# Altium footprint library switch.PcbLib: 12 footprints
Each footprint in its own frame and in the unit in brackets; x right, y up, seen from the top. Pads: shape width x height; smd on the part's side, far side on the other; paste and mask are expansions set on the pad; w line width, h text height; cw(c..) or ccw(c..) is an arc to the next point about the centre after c.
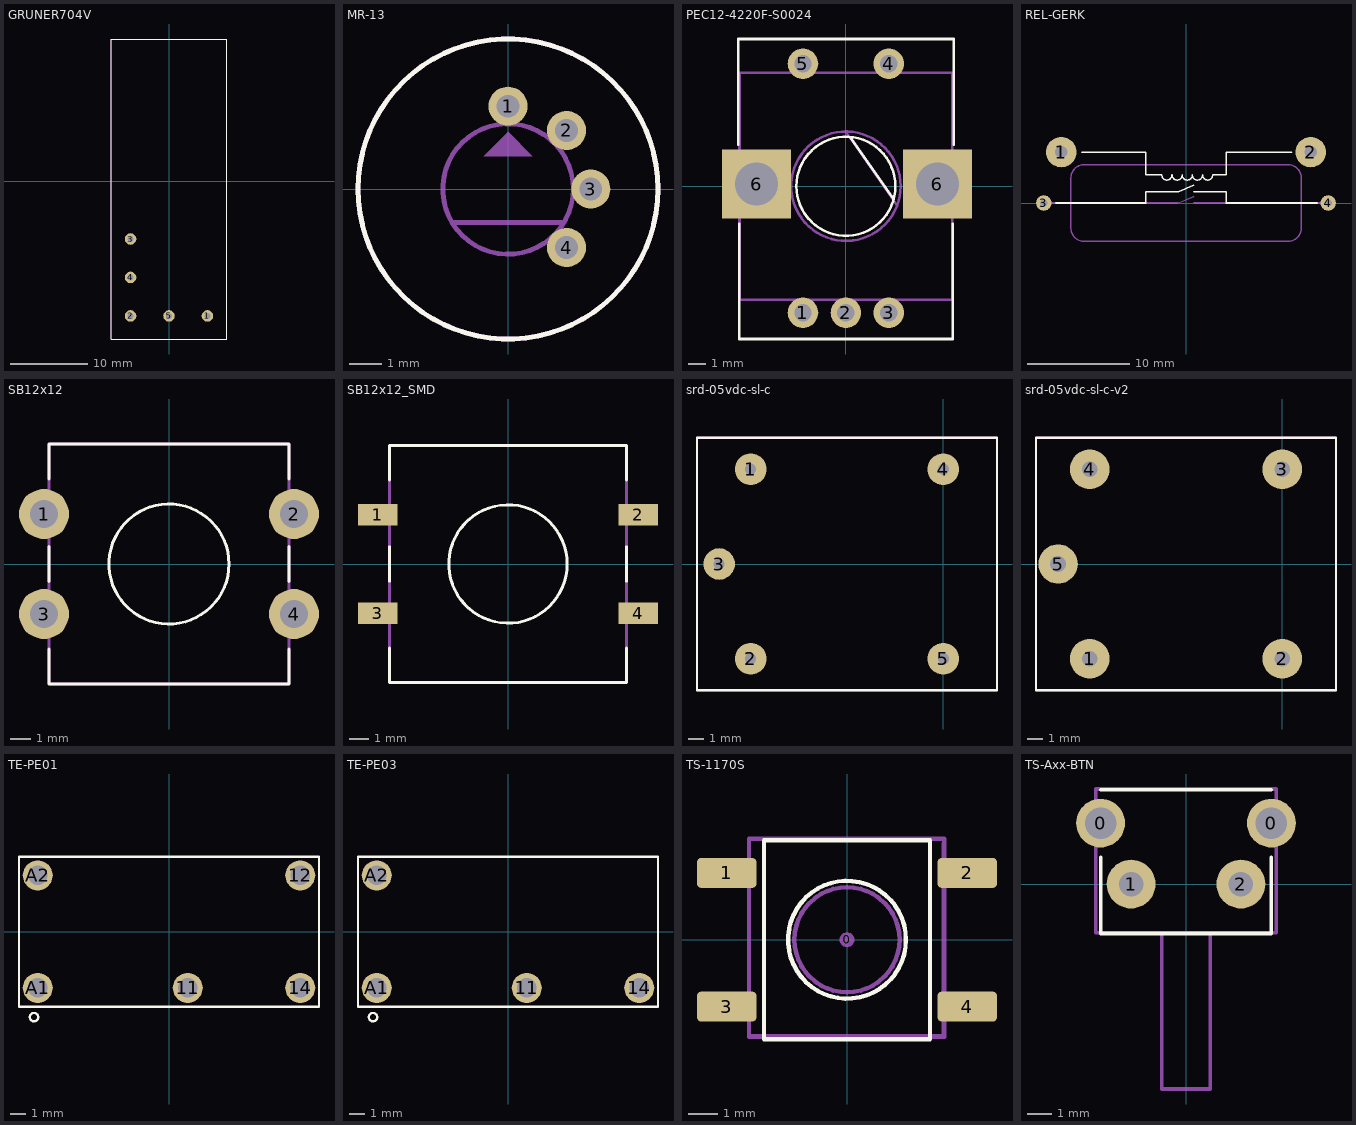
[diagram p0: the footprints below, top view; thin cyan lines are the x and y axes]

## GRUNER704V [mm]
height 34
pads (5):
  round 1.5 hole 0.8: 1(5,-17.5) 2(-5,-17.5) 3(-5,-7.5) 4(-5,-12.5) 5(0,-17.5)
Top Overlay:
  lines w0.15: -7.5,-20.5 7.5,-20.5 7.5,18.5 -7.5,18.5 -7.5,-20.5
Mechanical 29:
  lines w0.15: -7.5,-20.5 -7.5,18.5 7.5,18.5 7.5,-20.5 -7.5,-20.5
3D body "reley704V.STEP": height 32.4, standoff -5.9, extent -12.9,-20.5 7.5,48

## MR-13 [mm]
height 15
pads (4):
  round 1.2 hole 0.7: 1(0,2.54) 2(1.796,1.796) 3(2.54,0) 4(1.796,-1.796)
Top Overlay:
  circle w0.15: c0,0 r4.6
Mechanical 29:
  circle w0.15: c0,0 r2
  circle w0.15: c0,0 r4.6
  region: 0,1.75 -0.75,1 0.75,1
  lines w0.15: -1.725,-1.025 1.725,-1.025
3D body "MR-13.STEP": height 14.5, standoff -3.2, extent -4.6,-4.6 4.6,5.273

## PEC12-4220F-S0024 [mil]
height 944.88
pads (7):
  round 70 hole 40: 1(-98.43,-290) 2(0,-290) 3(98.43,-290) 4(98.43,280.87) 5(-98.43,280.87)
  rect 157.48x157.48 hole 98.43: 6(-205,5) 6(210,5)
Top Overlay:
  circle w5.91: c0,0 r113.62
  lines w5.91: -247.05,95.47 -247.05,337.6 0,337.6 247.05,337.6 247.05,95.47 ; -245.08,-86.61 -245.08,-350.39 0,-350.39 245.08,-350.39 245.08,-86.61 ; 9.97,112.59 109.25,-29.53
Mechanical 29:
  circle w5.91: c0,0 r125.47
  lines w5.91: -0.98,125.98 116.14,-42.32 ; -244,-260 -244,260 244,260 244,-260 -244,-260
3D body "PEC12-4220F-S0024.STEP": height 720.47, standoff -101.48, extent -243.19,-279.53 245,279.53

## REL-GERK [mm]
height 14
pads (4):
  round 3 hole 1.2: 1(-12.25,5) 2(12.25,5)
  round 1.524 hole 0.7: 3(-13.97,0) 4(13.97,0)
Top Overlay:
  lines w0.15: -12.8,0 -3.95,0 -3.95,1.125 -0.75,1.125 0.75,1.75 ; -10.25,5 -3.95,5 -3.95,2.775 -2.375,2.775 -2.375,2.75 ccw(c-1.875,2.75) -1.375,2.75 ccw(c-0.875,2.75) -0.375,2.75 ccw(c0.125,2.75) 0.625,2.75 ccw(c1.125,2.75) 1.625,2.75 ccw(c2.125,2.75) 2.625,2.75 2.625,2.775 3.95,2.775 3.95,5 10.4,5 ; 0.75,1.125 3.95,1.125 3.95,0 12.875,0
Mechanical 29:
  lines w0.15: -13.965,0 -3.945,0 -0.745,0 0.755,0.625 ; -11.305,0 -11.305,-2.48 ccw(c-10.035,-2.48) -10.035,-3.75 -0.005,-3.75 ; -11.3,0 -11.3,2.48 cw(c-10.03,2.48) -10.03,3.75 0,3.75 ; 0.01,-3.75 10.04,-3.75 ccw(c10.04,-2.48) 11.31,-2.48 11.31,0 11.31,2.48 ccw(c10.04,2.48) 10.04,3.75 0.01,3.75 ; 0.755,0 3.955,0 13.975,0

## SB12x12 [mm]
height 15
pads (4):
  round 2.5 hole 1.4: 1(-6.25,2.5) 2(6.25,2.5) 3(-6.25,-2.5) 4(6.25,-2.5)
Top Overlay:
  circle w0.15: c0,0 r3
  lines w0.15: -6,-4.25 -6,-6 0,-6 6,-6 6,-4.25 ; -6,-0.875 -6,0 -6,0.875 ; -6,4.25 -6,6 0,6 6,6 6,4.25 ; 6,-0.875 6,0 6,0.875
Mechanical 29:
  lines w0.15: -6,-6 -6,6 6,6 6,-6 -6,-6
3D body "KLS7-TS1204-7.3-180.STEP": height 7.8, standoff -3, extent -6.755,-6 6.755,6

## SB12x12_SMD [mm]
height 15
pads (4):
  rect 2x1.1 smd: 1(-6.6,2.5) 2(6.6,2.5) 3(-6.6,-2.5) 4(6.6,-2.5)
Top Overlay:
  circle w0.15: c0,0 r3
  lines w0.15: -6,-4.25 -6,-6 0,-6 6,-6 6,-4.25 ; -6,-0.875 -6,0 -6,0.875 ; -6,4.25 -6,6 0,6 6,6 6,4.25 ; 6,-0.875 6,0 6,0.875
Mechanical 29:
  lines w0.15: -6,-6 -6,6 6,6 6,-6 -6,-6
3D body "KAN1211-1201B.STEP": height 18.3, standoff 0, extent -6.45,-5.975 6.45,6.025

## srd-05vdc-sl-c [mm]
height 14
pads (5):
  round 2 hole 0.7: 1(-12.2,6) 2(-12.2,-6) 3(-14.2,0) 4(0,6) 5(0,-6)
Top Overlay:
  lines w0.15: -15.6,-8 3.4,-8 3.4,8 -15.6,8 -15.6,-8
Mechanical 29:
  lines w0.15: -15.6,-8 3.4,-8 3.4,8 -15.6,8 -15.6,-8
3D body: height 14, standoff 0.5, extent -15.675,-8.075 3.475,8.075

## srd-05vdc-sl-c-v2 [mm]
height 14
pads (5):
  round 2.5 hole 1: 1(-12.2,-6) 2(0,-6) 3(0,6) 4(-12.2,6) 5(-14.2,0)
Top Overlay:
  lines w0.15: -15.6,-8 3.4,-8 3.4,8 -15.6,8 -15.6,-8
Mechanical 29:
  lines w0.15: -15.6,-8 3.4,-8 3.4,8 -15.6,8 -15.6,-8
3D body: height 14, standoff 0.5, extent -15.675,-8.075 3.475,8.075

## TE-PE01 [mm]
height 10
pads (5):
  round 2 hole 1.3 unplated: 11(1.25,-3.75) 12(8.75,3.75) 14(8.75,-3.75) A1(-8.75,-3.75) A2(-8.75,3.75)
Top Overlay:
  circle w0.15: c-9,-5.7 r0.283
  lines w0.15: -10,-5 -10,5 10,5 10,-5 -10,-5
3D body: height 10, standoff 0.5, extent -10,-5 10,5

## TE-PE03 [mm]
height 10
pads (4):
  round 2 hole 1.3 unplated: 11(1.25,-3.75) 14(8.75,-3.75) A1(-8.75,-3.75) A2(-8.75,3.75)
Top Overlay:
  circle w0.15: c-9,-5.7 r0.283
  lines w0.15: -10,-5 -10,5 10,5 10,-5 -10,-5
3D body: height 10, standoff 0.5, extent -10,-5 10,5

## TS-1170S [mm] "6.5x6.5mm SMD tact switch 7.0mm stem"
height 7
pads (5):
  round 0.508 on Mech15: 0(0,0)
  rrect25% 2x1 smd: 1(-4.05,2.25) 2(4.05,2.25) 3(-4.05,-2.25) 4(4.05,-2.25)
Top Overlay:
  circle w0.15: c0,0 r1.984
  lines w0.15: -2.794,-3.35 -2.794,3.35 2.794,3.35 2.794,-3.35 -2.794,-3.35
Mechanical 29:
  circle w0.15: c0,0 r1.77
  lines w0.15: -3.3,-2.625 -4.35,-2.625 -4.35,-1.9 -3.3,-1.9 ; -3.3,1.875 -4.35,1.875 -4.35,2.6 -3.3,2.6 ; -3.25,-3.25 3.25,-3.25 3.25,3.25 ; 3.275,-2.625 4.325,-2.625 4.325,-1.9 3.275,-1.9 ; 3.275,1.9 4.325,1.9 4.325,2.625 3.275,2.625 ; -3.3,-3.275 -3.3,3.4 3.275,3.4 3.275,-3.275 -3.3,-3.275
3D body "TS-1170S-WP.stp": height 7, standoff 0, extent -4,-3.25 4,3.25

## TS-Axx-BTN [mm]
height 7
pads (4):
  round 2 hole 1.3: 0(-3.5,2.5) 0(3.5,2.5)
  round 2 hole 1: 1(-2.25,0) 2(2.25,0)
Top Overlay:
  lines w0.15: -3.5,1.1 -3.5,-2.025 0,-2.025 3.5,-2.025 3.5,1.1 ; -3.5,3.875 3.5,3.875
Mechanical 29:
  lines w0.15: -1,-2 -1,-8.4 0,-8.4 1,-8.4 1,-2 ; -3.7,-2 -3.7,3.9 3.7,3.9 3.7,-2 -3.7,-2
3D body "User Library-TACT DIP 6X6 CORNER (SWITRONIC 0795).step": height 7.3, standoff -3.6, extent -3.945,-8.425 3.995,3.975